# Altium footprint library SparkFun-Capacitors.PCBLIB: 87 footprints (part 4 of 6)
Each footprint in its own frame and in the unit in brackets; x right, y up, seen from the top. Pads: shape width x height; smd on the part's side, far side on the other; paste and mask are expansions set on the pad; w line width, h text height; cw(c..) or ccw(c..) is an arc to the next point about the centre after c.
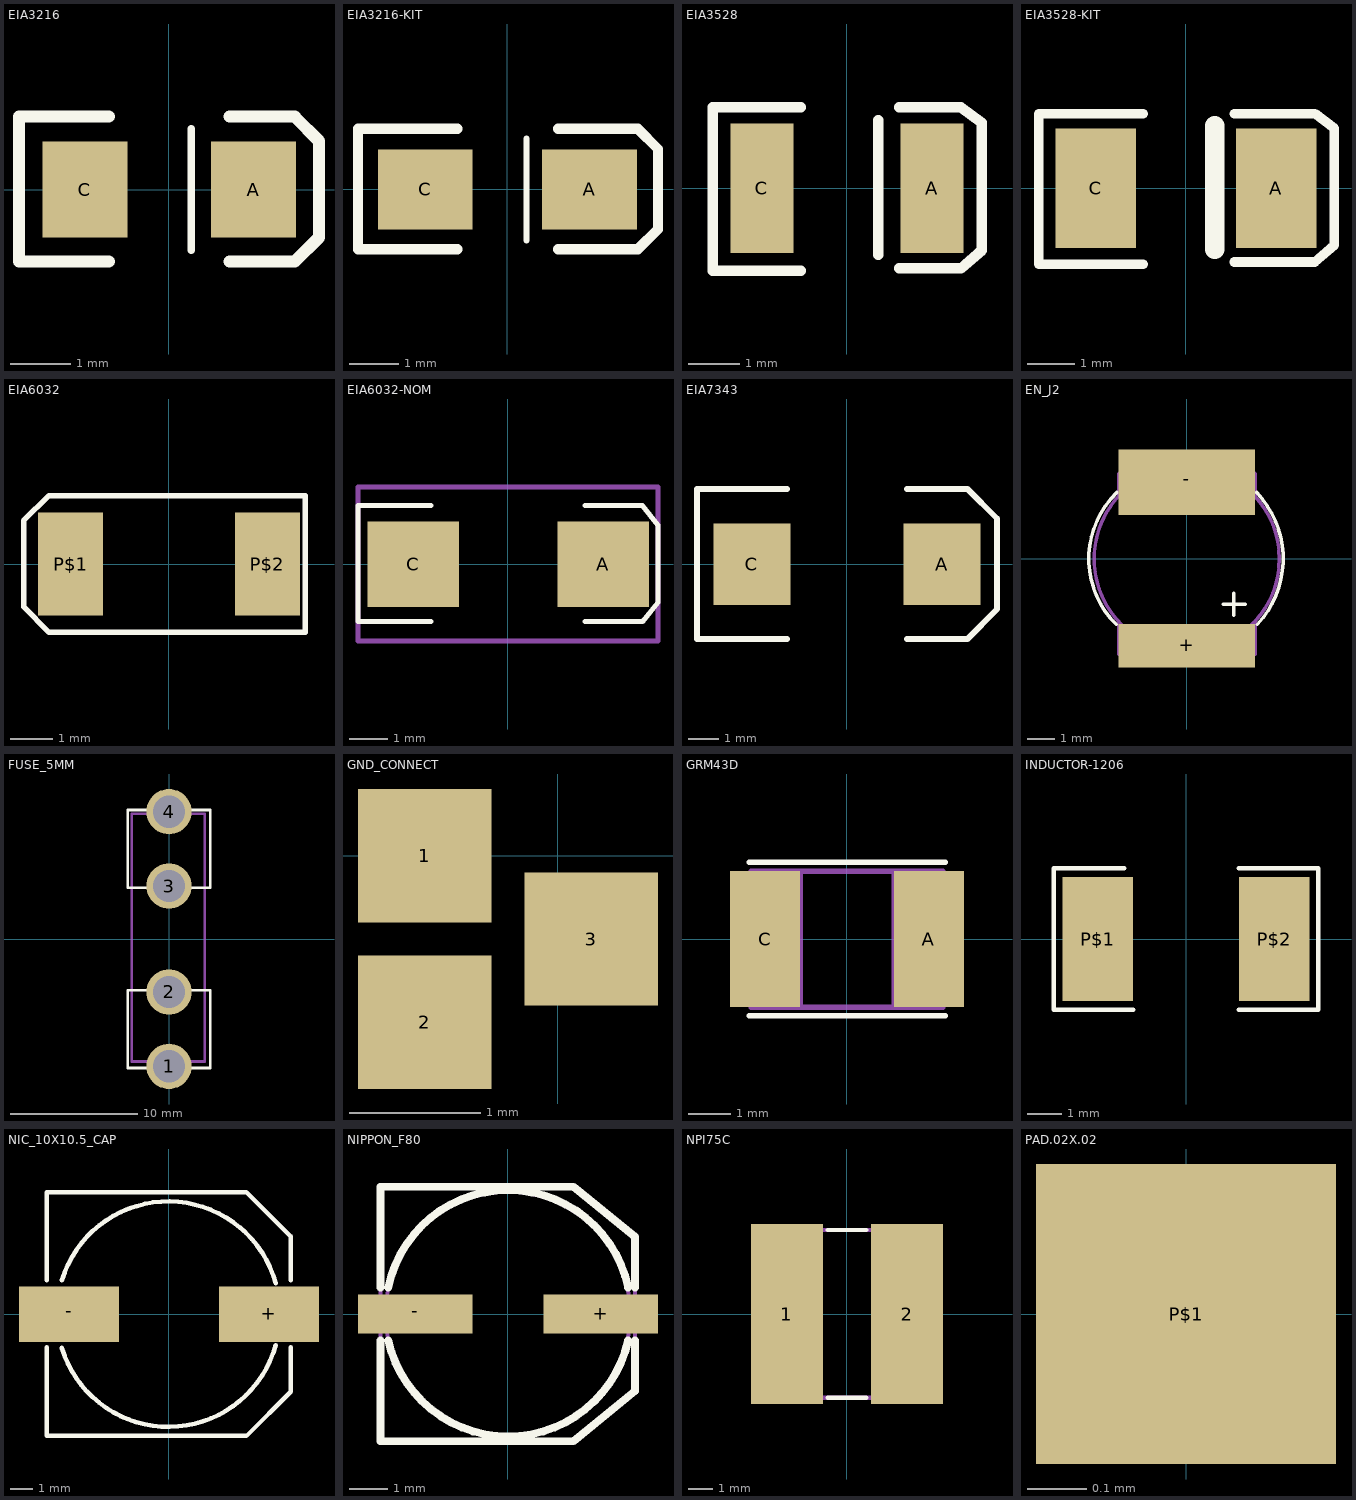
[diagram p3: the footprints below, top view; thin cyan lines are the x and y axes]

## EIA3216 [mil]
pads (2):
  rect 56x63 smd: A(56,0) C(-55.12,0)
Top Overlay:
  lines w5: 15,-40 15,40
  lines w8: -39.37,-47.24 -98.43,-47.24 -98.43,48 -39.37,48 ; 40,-47.24 83,-47.24 99,-31.5 99,32 83,48 40,48
Mechanical 2:
  text ">NAME" at -100,55 h24.8
Mechanical 4:
  text ">VALUE" at 17,53 h24.8

## EIA3216-KIT [mil]
pads (2):
  rect 75x63 smd: A(65,0) C(-64.96,0)
Top Overlay:
  lines w5: 15,-40 15,40
  lines w8: -39.37,-47.24 -118.11,-47.24 -118.11,48 -39.37,48 ; 40,-47.24 103,-47.24 119,-31.5 119,32 103,48 40,48
Mechanical 2:
  text ">NAME" at -100,55 h24.8
Mechanical 4:
  text ">VALUE" at 17,53 h24.8

## EIA3528 [mil]
pads (2):
  rect 48x99 smd: A(65,0) C(-64.96,0)
Top Overlay:
  lines w8: -35.43,-62.99 -102.36,-62.99 -102.36,62 -35.43,62 ; 24,-50.63 24,52 ; 40,-61.02 87,-61.02 103,-47.24 103,50 87,62 ; 87,62 40,62 87,62
Mechanical 2:
  text ">NAME" at -89.37,-50 h77.5
Mechanical 4:
  text ">VALUE" at 128,-53.94 h77.5

## EIA3528-KIT [mil]
pads (2):
  rect 67x99 smd: A(75,0) C(-74.8,0)
Top Overlay:
  lines w8: -35.43,-62.99 -122.05,-62.99 -122.05,62 -35.43,62 ; 40,-61.02 107,-61.02 123,-47.24 123,50 107,62 40,62
  lines w16: 24,-50.63 24,52
Mechanical 2:
  text ">NAME" at -89.37,-50 h77.5
Mechanical 4:
  text ">VALUE" at 128,-53.94 h77.5

## EIA6032 [mil]
pads (2):
  rect 60x95 smd: P$1(-90.55,0) P$2(91,0)
Top Overlay:
  lines w5: -133.86,-39.37 -133.86,40 -110.24,63 126,63 126,-62.99 -110.24,-62.99 -133.86,-39.37

## EIA6032-NOM [mil]
pads (2):
  rect 94x88 smd: A(98,0) C(-97.24,0)
Top Overlay:
  lines w5: -78.74,-59.06 -153.94,-59.06 -153.94,60 -78.74,60 ; 79,-59.06 138,-59.06 154,-39.37 154,40 138,60 79,60
Mechanical 2:
  text ">Name" at -50,50 h24.8
Mechanical 4:
  text ">Value" at -50,-50 h24.8
Mechanical 16:
  lines w5: -153.94,-78.74 154,-78.74 154,79 -153.94,79 -153.94,-78.74

## EIA7343 [mil]
pads (2):
  rect 101x107 smd: A(125,0) C(-124.8,0)
Top Overlay:
  lines w8: -78.74,-98.43 -196.85,-98.43 -196.85,99 -78.74,99 ; 79,-98.43 158,-98.43 197,-59.06 197,60 158,99 79,99
Mechanical 2:
  text ">Name" at -50,50 h24.8
Mechanical 4:
  text ">Value" at -50,-50 h24.8

## EN_J2 [mil]
pads (2):
  rect 197x63 smd: +(0,-125.98)
  rect 197x95 smd: -(0,111)
Top Overlay:
  lines w5: -102,-95 cw(c-8,0.01) -101,96 ; 53,-66 85,-66 ; 68,-82 68,-50 ; 101,96 cw(c0.5,-0.03) 102,-95
Mechanical 2:
  text ">NAME" at -89.76,26 h24.8
Mechanical 4:
  text ">VALUE" at -90.94,-47.64 h24.8
Mechanical 16:
  circle w5: c0,0 r134
  lines w5: -98.43,-90.55 -98.43,-137.8 99,-137.8 99,-90.55 ; -98.43,91 -98.43,123 -82.68,138 83,138 99,123 99,91

## FUSE_5MM [mil]
pads (4):
  round 140 hole 100: 1(0,-393.7) 2(0,-163.7) 3(0,164) 4(0,394)
Top Overlay:
  lines w8: -127,-161.7 -127,-398.7 127,-398.7 127,-158.7 -127,-158.7 ; 127,159 -127,159 -127,399 127,399 127,162
Mechanical 16:
  lines w8: -115,-378.7 -115,387 110,387 110,362 110,-378.7 10,-378.7 -115,-378.7

## GND_CONNECT [mil]
pads (3):
  rect 40x40 smd: 1(-40,0) 2(-40,-50) 3(10,-25)
Mechanical 2:
  text ">NAME" at -35,50 h77.5
Mechanical 4:
  text ">VALUE" at -45,-160 h77.5

## GRM43D [mil]
pads (2):
  rect 65x126 smd: A(76,0) C(-75.87,0)
Top Overlay:
  lines w5: -90.55,-70.87 91,-70.87 ; -90.55,71 91,71
Mechanical 2:
  text ">NAME" at -78.74,79 h24.8
Mechanical 4:
  text ">VALUE" at 0,-78.74 h24.8
Mechanical 16:
  rectangle: -86.61,-62.99 -43.31,63
  rectangle: 44,-62.99 87,63
  lines w5: -43.31,-62.99 -88.58,-62.99 -88.58,63 -43.31,63 ; -43.31,-62.99 44,-62.99 ; -43.31,-62.99 -43.31,63 ; -43.31,63 44,63 ; 44,-62.99 89,-62.99 89,63 44,63 ; 44,-62.99 44,63

## INDUCTOR-1206 [mil]
pads (2):
  rect 80x140 smd: P$1(-100,0) P$2(100,0)
Top Overlay:
  lines w5: -70,80 -150,80 -150,-80 -60,-80 ; 60,-80 150,-80 150,80 60,80
Mechanical 2:
  text ">Name" at -50,100 h24.8
Mechanical 4:
  text ">Value" at -50,-100 h24.8

## NIC_10X10.5_CAP [mil]
pads (2):
  rect 178x99 smd: +(178,0) -(-177.17,0)
Top Overlay:
  lines w8: -216.54,-59.06 -216.54,-216.54 138,-216.54 217,-137.8 217,-59.06 ; -216.54,60 -216.54,217 138,217 217,138 217,60 ; -190,-60 ccw(c-0.72,-2.51) 190,-55 ; -190,60 cw(c-0.72,2.51) 190,55

## NIPPON_F80 [mil]
pads (2):
  rect 117x40 smd: +(95,0) -(-94.49,0)
Top Overlay:
  lines w8: -129.92,-26.97 -129.92,-129.92 67,-129.92 130,-78.74 130,-26.97 ; -129.92,27 -129.92,130 67,130 130,79 130,27 ; -122.05,-26.97 ccw(c0.48,0.48) 123,-26.97 ; -122.05,27 cw(c0.48,1.52) 123,27
Mechanical 2:
  text ">NAME" at -125.98,138 h24.8
Mechanical 4:
  text ">VALUE" at -125.98,-151.57 h24.8
Mechanical 16:
  circle w4: c0,0 r125
  lines w4: -129.92,-129.92 67,-129.92 130,-78.74 130,79 67,130 -129.92,130 -129.92,-129.92

## NPI75C [mil]
pads (2):
  rect 119x296 smd: 1(-98.43,0) 2(99,0)
Top Overlay:
  lines w7: -31.5,-137.8 32,-137.8 ; -31.5,138 32,138
Mechanical 16:
  lines w7: -153.54,-137.8 -153.54,138 154,138 154,-137.8 -153.54,-137.8

## PAD.02X.02 [mil]
pads (1):
  rect 20x20 smd: P$1(0,0)